# Altium schematic symbol library ARCOM_Chips.SchLib: 90 symbols (part 1 of 2)
Pins are listed as number, name and electrical type; pins without a type are passive.

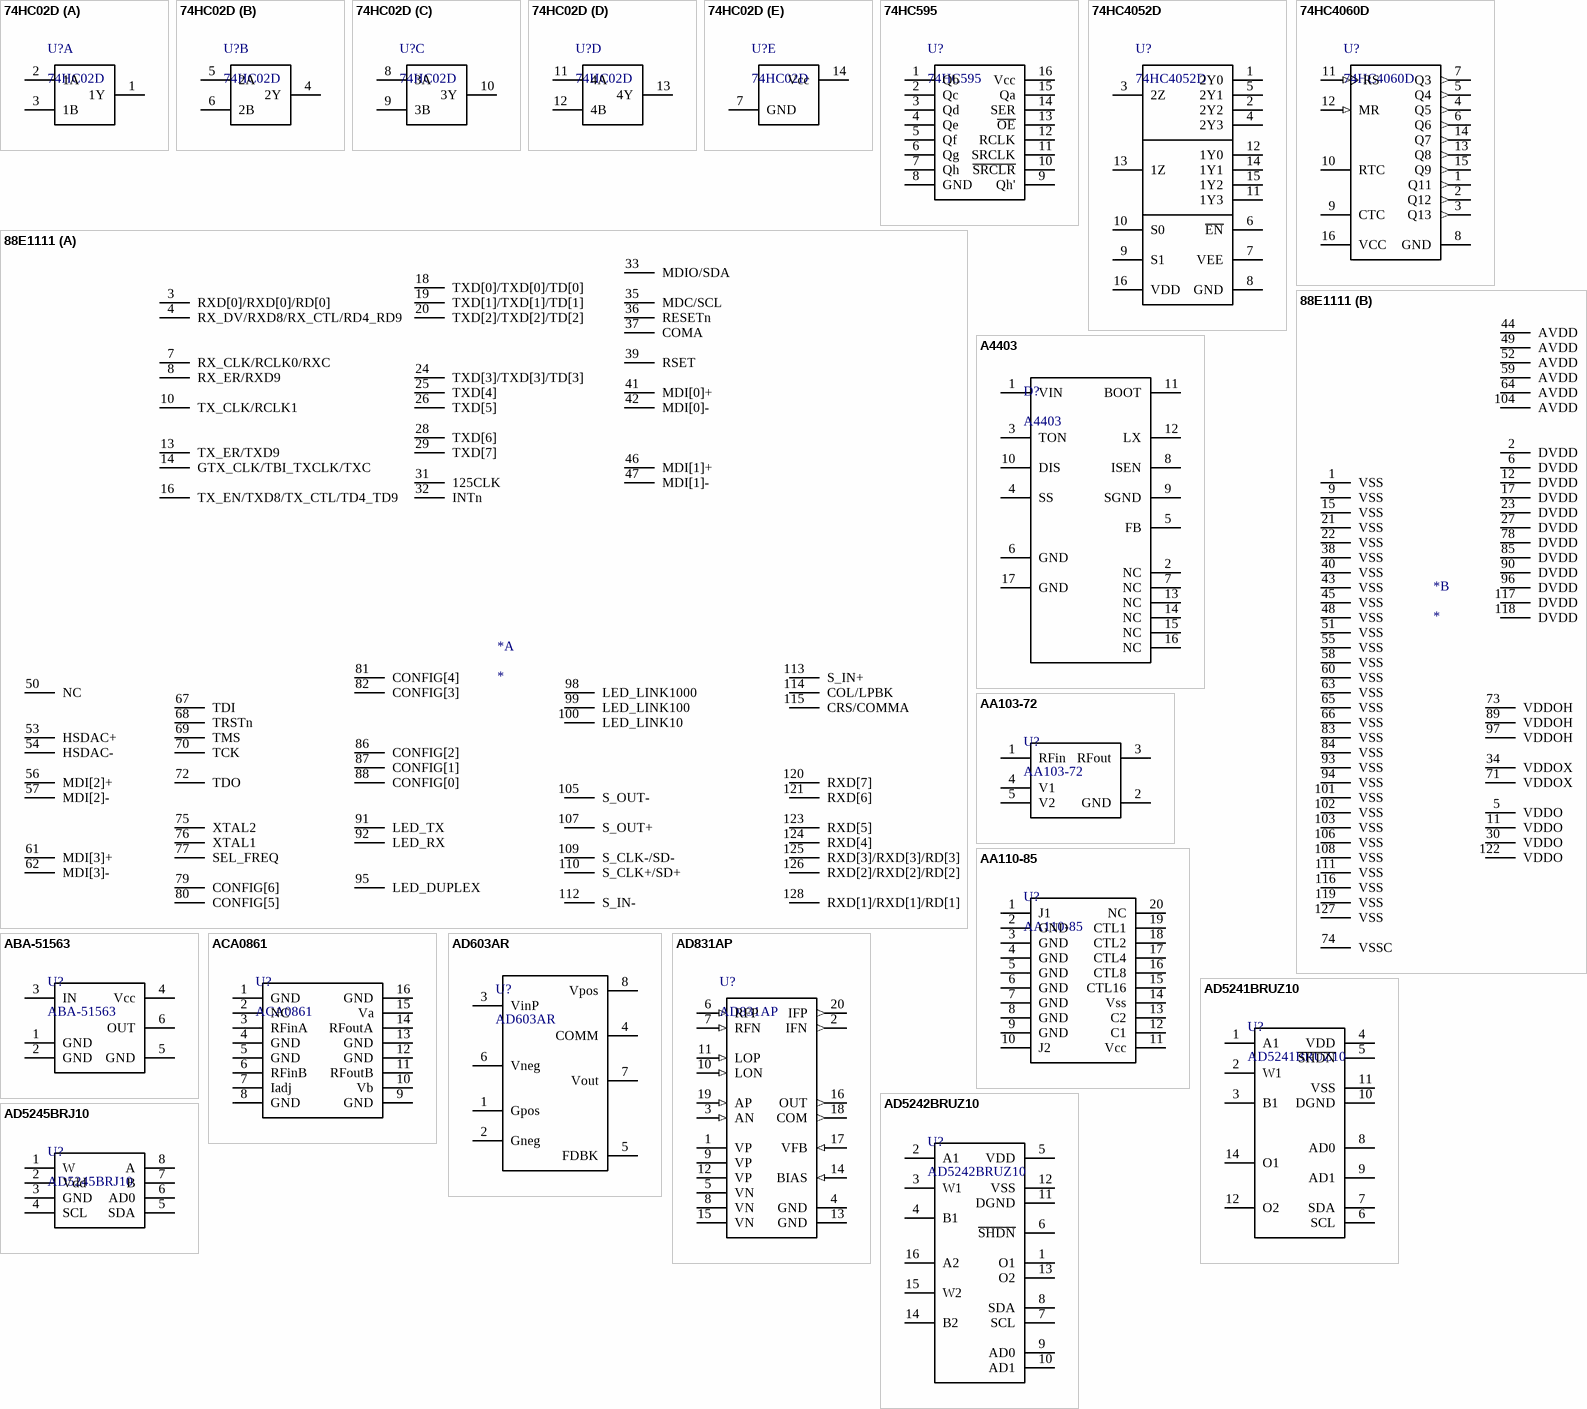
[diagram p0: symbols 74HC02D to AD5245BRJ10]

## 74HC02D
designator U?
Quad 2-input NOR gate; Manufacturer: NXP; ComponentLink1Description: Manufacturer; ComponentLink1URL: www.nxp.com; ComponentLink2Description: Datasheet; ComponentLink2URL: http://www.nxp.com/documents/data_sheet/74HC_HCT02.pdf; Manufacturer P/N: *; Family: Chip; Part: *
footprint PDSO-G14
part A pins: 1 1Y (power) "clock input /oscillator pin", 2 1A (power) "clock input /oscillator pin", 3 1B (power) "clock input /oscillator pin"
part B pins: 4 2Y (power) "clock input /oscillator pin", 5 2A (power) "clock input /oscillator pin", 6 2B (power) "clock input /oscillator pin"
part C pins: 8 3A (power) "clock input /oscillator pin", 9 3B (power) "clock input /oscillator pin", 10 3Y (power) "clock input /oscillator pin"
part D pins: 11 4A (power) "clock input /oscillator pin", 12 4B (power) "clock input /oscillator pin", 13 4Y (power) "clock input /oscillator pin"
part E pins: 7 GND (power) "clock input /oscillator pin", 14 Vcc (power) "clock input /oscillator pin"

## 74HC595
designator U?
8-Bit Shift Registers With 3-State Output Registers; Manufacturer: Texas Instruments; Manufacturer P/N: SN74HC595D; ComponentLink1Description: Manufacturer; ComponentLink1URL: *; ComponentLink2Description: Datasheet; ComponentLink2URL: *; Family: Chip; Part: SN74HC595D
footprint SOIC_16_N (SOIC, 16-Leads, Body 9.9x3.9mm, Pitch 1.27mm, IPC Medium Density)
pins: 1 Qb, 2 Qc, 3 Qd, 4 Qe, 5 Qf, 6 Qg, 7 Qh, 8 GND, 9 Qh', 10 ~{SRCLR}, 11 SRCLK, 12 RCLK, 13 ~{OE}, 14 SER, 15 Qa, 16 Vcc

## 74HC4052D
designator U?
Dual 4-channel analog multiplexer/demultiplexer; Manufacturer: NXP; ComponentLink1Description: Manufacturer; ComponentLink1URL: http://www.nxp.com/; ComponentLink2Description: Datasheet; ComponentLink2URL: https://www.mouser.com/datasheet/2/408/74HC4052D_datasheet_en_20201203-959202.pdf; Manufacturer P/N: 74HC4052D; Part: 74HC4052D; Family: Chip
footprint SOT109-1_V (SOP, 16-Leads, Body 9.9x3.9mm, Pitch 1.27mm)
pins: 1 2Y0 "independent input or output", 2 2Y2 "independent input or output", 3 2Z "common input or output", 4 2Y3 "independent input or output", 5 2Y1 "independent input or output", 6 ~{EN} "enable input (active LOW)", 7 VEE (power) "negative supply voltage", 8 GND (power) "ground (0V)", 9 S1 "select logic input", 10 S0 "select logic input", 11 1Y3 "independent input or output", 12 1Y0 "independent input or output", 13 1Z "common input or output", 14 1Y1 "independent input or output", 15 1Y2 "independent input or output", 16 VDD (power) "positive supply voltage"

## 74HC4060D
designator U?
14-stage binary ripple counter with oscillator; Manufacturer: NXP; ComponentLink1Description: Manufacturer; ComponentLink1URL: http://www.nxp.com/; ComponentLink2Description: Datasheet; ComponentLink2URL: http://www.nxp.com/documents/data_sheet/74HC_HCT4060.pdf; Manufacturer P/N: 74HC4060D; Part: 74HC4060D; Family: Chip
footprint SOT109-1_V (SOP, 16-Leads, Body 9.9x3.9mm, Pitch 1.27mm)
pins: 1 Q11 (out) "counter output", 2 Q12 (out) "counter output", 3 Q13 (out) "counter output", 4 Q5 (out) "counter output", 5 Q4 (out) "counter output", 6 Q6 (out) "counter output", 7 Q3 (out) "counter output", 8 GND (power) "ground (0 V)", 9 CTC "external capacitor connection", 10 RTC "external resistor connection", 11 RS (in) "clock input /oscillator pin", 12 MR (in) "master reset input (active HIGH)", 13 Q8 (out) "counter output", 14 Q7 (out) "counter output", 15 Q9 (out) "counter output", 16 VCC (power) "supply voltage"

## 88E1111
designator *
part A pins: 3 RXD[0]/RXD[0]/RD[0], 4 RX_DV/RXD8/RX_CTL/RD4_RD9, 7 RX_CLK/RCLK0/RXC, 8 RX_ER/RXD9, 10 TX_CLK/RCLK1, 13 TX_ER/TXD9, 14 GTX_CLK/TBI_TXCLK/TXC, 16 TX_EN/TXD8/TX_CTL/TD4_TD9, 18 TXD[0]/TXD[0]/TD[0], 19 TXD[1]/TXD[1]/TD[1], 20 TXD[2]/TXD[2]/TD[2], 24 TXD[3]/TXD[3]/TD[3], 25 TXD[4], 26 TXD[5], 28 TXD[6], 29 TXD[7], 31 125CLK, 32 INTn, 33 MDIO/SDA, 35 MDC/SCL, 36 RESETn, 37 COMA, 39 RSET, 41 MDI[0]+, 42 MDI[0]-, 46 MDI[1]+, 47 MDI[1]-, 50 NC, 53 HSDAC+, 54 HSDAC-, 56 MDI[2]+, 57 MDI[2]-, 61 MDI[3]+, 62 MDI[3]-, 67 TDI, 68 TRSTn, 69 TMS, 70 TCK, 72 TDO, 75 XTAL2, 76 XTAL1, 77 SEL_FREQ, 79 CONFIG[6], 80 CONFIG[5], 81 CONFIG[4], 82 CONFIG[3], 86 CONFIG[2], 87 CONFIG[1], 88 CONFIG[0], 91 LED_TX, 92 LED_RX, 95 LED_DUPLEX, 98 LED_LINK1000, 99 LED_LINK100, 100 LED_LINK10, 105 S_OUT-, 107 S_OUT+, 109 S_CLK-/SD-, 110 S_CLK+/SD+, 112 S_IN-, 113 S_IN+, 114 COL/LPBK, 115 CRS/COMMA, 120 RXD[7], 121 RXD[6], 123 RXD[5], 124 RXD[4], 125 RXD[3]/RXD[3]/RD[3], 126 RXD[2]/RXD[2]/RD[2], 128 RXD[1]/RXD[1]/RD[1]
part B pins: 1 VSS, 2 DVDD, 5 VDDO, 6 DVDD, 9 VSS, 11 VDDO, 12 DVDD, 15 VSS, 17 DVDD, 21 VSS, 22 VSS, 23 DVDD, 27 DVDD, 30 VDDO, 34 VDDOX, 38 VSS, 40 VSS, 43 VSS, 44 AVDD, 45 VSS, 48 VSS, 49 AVDD, 51 VSS, 52 AVDD, 55 VSS, 58 VSS, 59 AVDD, 60 VSS, 63 VSS, 64 AVDD, 65 VSS, 66 VSS, 71 VDDOX, 73 VDDOH, 74 VSSC, 78 DVDD, 83 VSS, 84 VSS, 85 DVDD, 89 VDDOH, 90 DVDD, 93 VSS, 94 VSS, 96 DVDD, 97 VDDOH, 101 VSS, 102 VSS, 103 VSS, 104 AVDD, 106 VSS, 108 VSS, 111 VSS, 116 VSS, 117 DVDD, 118 DVDD, 119 VSS, 122 VDDO, 127 VSS

## A4403
designator D?
Valley Current Mode Control Buck Converter; Manufacturer: Allegro MicroSystems., LLC; ComponentLink1Description: Manufacturer; ComponentLink2Description: Datasheet; ComponentLink2URL: https://www.google.ru/url?sa=t&rct=j&q=&esrc=s&source=web&cd=1&cad=rja&uact=8&ved=0ahUKEwifxJz-1uvOAhXhNJoKHSR9B5QQFggbMAA&url=http%3A%2F%2Fwww.allegromicro.com%2F~%2Fmedia%2Ffiles%2Fdatasheets%2Fa4403-datasheet.ashx&usg=AFQjCNEg80RW3msAan66noTVfqcKcYbUNQ&sig2=7SIyzdgdjy15XZ7xWYCyTQ&bvm=bv.131286987,d.bGs; Manufacturer P/N: A4403; Family: Chip; Part: A4403
footprint QFN16(4x4mm)0.65pitch
pins: 1 VIN, 2 NC, 3 TON, 4 SS, 5 FB, 6 GND, 7 NC, 8 ISEN, 9 SGND, 10 DIS, 11 BOOT, 12 LX, 13 NC, 14 NC, 15 NC, 16 NC, 17 GND

## AA103-72
designator U?
1-Bit 10dB Digital Attenuator; Manufacturer: Skyworks solutions; ComponentLink1Description: Manufacturer; ComponentLink1URL: http://www.skyworksinc.com; ComponentLink2Description: Datasheet; ComponentLink2URL: http://www.skyworksinc.com/uploads/documents/200199C.pdf; Manufacturer P/N: AA103-72; Part: AA103-72; Family: Chip
footprint SOT23_MF05A_L (SOT23, 5-Leads, Body 2.9x1.6mm, Pitch 0.95mm, Lead Span 2.8mm, IPC High Density)
footprint SOT23_MF05A_M (SOT23, 5-Leads, Body 2.9x1.6mm, Pitch 0.95mm, Lead Span 2.8mm, IPC Low Density)
footprint SOT23_MF05A_N (SOT23, 5-Leads, Body 2.9x1.6mm, Pitch 0.95mm, Lead Span 2.8mm, IPC Medium Density)
pins: 1 RFin, 2 GND, 3 RFout, 4 V1, 5 V2

## AA110-85
designator U?
5-Bit Digital Attenuator with driver; Manufacturer: Skyworks solutions; ComponentLink1Description: Manufacturer; ComponentLink1URL: http://www.skyworksinc.com/; ComponentLink2Description: Datasheet; ComponentLink2URL: http://pdf1.alldatasheet.com/datasheet-pdf/view/201353/SKYWORKS/AA110-85.html; Manufacturer P/N: AA110-85; Part: AA110-85; Family: Chip
footprint SSOP-20_L (SOP, 20-Leads, Body 6.5x4.4mm, Pitch 0.65mm, IPC High Density)
footprint SSOP-20_M (SOP, 20-Leads, Body 6.5x4.4mm, Pitch 0.65mm, IPC Low Density)
footprint SSOP-20_N (SOP, 20-Leads, Body 6.5x4.4mm, Pitch 0.65mm, IPC Medium Density)
pins: 1 J1, 2 GND, 3 GND, 4 GND, 5 GND, 6 GND, 7 GND, 8 GND, 9 GND, 10 J2, 11 Vcc, 12 C1, 13 C2, 14 Vss, 15 CTL16, 16 CTL8, 17 CTL4, 18 CTL2, 19 CTL1, 20 NC

## ABA-51563
designator U?
3.5 GHz Broadband Silicon RFIC Amplifier; Manufacturer: Avago Technologies; Manufacturer P/N: ABA-51563-xxxx; ComponentLink1Description: Manufacturer; ComponentLink1URL: http://www.avagotech.com/; ComponentLink2Description: Datasheet; ComponentLink2URL: http://www.avagotech.com/products/wireless/amplifiers/gain-block-and-drivers/aba-51563#; Part: ABA-51563; Family: Chip
footprint SOT363 (SOT23, 6-Leads, Body 2x1.25 mm, Pitch 0.65 mm)
pins: 1 GND, 2 GND, 3 IN, 4 Vcc, 5 GND, 6 OUT

## ACA0861
designator U?
750/860 MHz Line Amplifier; Manufacturer: Anadigics; Manufacturer P/N: ACA0861xS7CTR; Part: ACA0861(A,B,C,D); ComponentLink1Description: Manufacturer; ComponentLink1URL: http://www.anadigics.com/; ComponentLink2Description: Datasheet; ComponentLink2URL: http://www.anadigics.com/sites/default/files/datasheets/ACA0861ABCD_Rev_2.3.pdf; Family: Chip
footprint TI-DW16_L (SOIC, 16-Leads, Body 10.3x7.5mm, Pitch 1.27mm, IPC High Density)
footprint TI-DW16_M (SOIC, 16-Leads, Body 10.3x7.5mm, Pitch 1.27mm, IPC Low Density)
footprint TI-DW16_N (SOIC, 16-Leads, Body 10.3x7.5mm, Pitch 1.27mm, IPC Medium Density)
pins: 1 GND, 2 NC, 3 RFinA, 4 GND, 5 GND, 6 RFinB, 7 Iadj, 8 GND, 9 GND, 10 Vb, 11 RFoutB, 12 GND, 13 GND, 14 RFoutA, 15 Va, 16 GND

## AD603AR
designator U?
Low Noise, 90MHz Variable Gain Amplifier; Manufacturer: Analog Devices; ComponentLink1Description: Manufacturer; ComponentLink1URL: http://www.analog.com/; ComponentLink2Description: Datasheet; ComponentLink2URL: http://www.analog.com/media/en/technical-documentation/data-sheets/AD603.pdf; Manufacturer P/N: AD603AR; Part: AD603AR; Family: Chip
footprint SOIC_8_1.27_L (SOIC, 8-Leads, Body 4.89x3.9mm, Pitch 1.27mm, IPC High Density)
footprint SOIC_8_1.27_M (SOIC, 8-Leads, Body 4.89x3.9mm, Pitch 1.27mm, IPC Low Density)
footprint SOIC_8_1.27_N (SOIC, 8-Leads, Body 4.89x3.9mm, Pitch 1.27mm, IPC Medium Density)
pins: 1 Gpos, 2 Gneg, 3 VinP, 4 COMM, 5 FDBK, 6 Vneg, 7 Vout, 8 Vpos

## AD831AP
designator U?
Low Distorsion Mixer; Manufacturer: Analog Devices; ComponentLink1Description: Manufacturer; ComponentLink1URL: http://www.analog.com/; ComponentLink2Description: Datasheet; ComponentLink2URL: http://www.analog.com/media/en/technical-documentation/data-sheets/AD831.pdf; Manufacturer P/N: AD831AP; Part: AD831AP; Family: Chip
footprint ADI-P-20A_L (Leaded Chip Carrier, 20-Leads, Body 9x9mm, Pitch 1.27mm, IPC High Density)
footprint ADI-P-20A_M (Leaded Chip Carrier, 20-Leads, Body 9x9mm, Pitch 1.27mm, IPC Low Density)
footprint ADI-P-20A_N (Leaded Chip Carrier, 20-Leads, Body 9x9mm, Pitch 1.27mm, IPC Medium Density)
pins: 1 VP (power) "Positive Supply Input", 2 IFN (out) "Mixer Current Output", 3 AN (in) "Amplifier Negative Input", 4 GND (power) "Ground", 5 VN (power) "Negative Supply Input", 6 RFP (in) "RF Input", 7 RFN (in) "RF Input", 8 VN (power) "Negative Supply Input", 9 VP (power) "Positive Supply Input", 10 LON (in) "Local Oscillator Input", 11 LOP (in) "Local Oscillator Input", 12 VP (power) "Positive Supply Input", 13 GND (power) "Ground", 14 BIAS (in) "Bias Input", 15 VN (power) "Negative Supply Input", 16 OUT (out) "Amplifier Output", 17 VFB (in) "Amplifier Feedback Input", 18 COM (out) "Amplifier Output Common", 19 AP (in) "Amplifier Positive Input", 20 IFP (out) "Mixer Current Output"

## AD5241BRUZ10
designator U?
I2C-Compatible, 256-Position Digital Potentiometer; Manufacturer: Analog Devices; ComponentLink1Description: Manufacturer; ComponentLink1URL: http://www.analog.com/; ComponentLink2Description: Datasheet; ComponentLink2URL: http://www.analog.com/media/en/technical-documentation/data-sheets/AD5241_5242.pdf; Manufacturer P/N: AD5241BRUZ10; Part: AD5241BRUZ10; Family: Chip
footprint TSSOP-ST14_L (TSOP, 14-Leads, Body 5x4.4mm, Pitch 0.65mm, IPC High Density)
footprint TSSOP-ST14_M (TSOP, 14-Leads, Body 5x4.4mm, Pitch 0.65mm, IPC Low Density)
footprint TSSOP-ST14_N (TSOP, 14-Leads, Body 5x4.4mm, Pitch 0.65mm, IPC Medium Density)
pins: 1 A1, 2 W1, 3 B1, 4 VDD, 5 ~{SHDN}, 6 SCL, 7 SDA, 8 AD0, 9 AD1, 10 DGND, 11 VSS, 12 O2, 14 O1

## AD5242BRUZ10
designator U?
I2C-Compatible, 256-Position Digital Potentiometer; Manufacturer: Analog Devices; ComponentLink1Description: Manufacturer; ComponentLink1URL: http://www.analog.com/; ComponentLink2Description: Datasheet; ComponentLink2URL: http://www.analog.com/media/en/technical-documentation/data-sheets/AD5241_5242.pdf; Manufacturer P/N: AD5242BRUZ10; Part: AD5242BRUZ10; Family: Chip
footprint TSSOP-16_L (SOP, 16-Leads, Body 5.1x4.5mm, Pitch 0.65mm, IPC High Density)
footprint TSSOP-16_M (SOP, 16-Leads, Body 5.1x4.5mm, Pitch 0.65mm, IPC Low Density)
footprint TSSOP-16_N (SOP, 16-Leads, Body 5.1x4.5mm, Pitch 0.65mm, IPC Medium Density)
pins: 1 O1, 2 A1, 3 W1, 4 B1, 5 VDD, 6 ~{SHDN}, 7 SCL, 8 SDA, 9 AD0, 10 AD1, 11 DGND, 12 VSS, 13 O2, 14 B2, 15 W2, 16 A2

## AD5245BRJ10
designator U?
256-Position I2C-compatible digital potentiometer; Manufacturer: Analog Devices; ComponentLink1Description: Manufacturer; ComponentLink1URL: http://www.analog.com/; ComponentLink2Description: Datasheet; ComponentLink2URL: http://www.analog.com/media/en/technical-documentation/data-sheets/AD5245.pdf; Manufacturer P/N: AD5245BRJ10; Part: AD5245BRJ10; Family: Chip
footprint SOT23_8pin (SOT23, 8-Leads, Body 2.90x1.63mm, Pitch 0.65mm, IPC High Density, Recommended)
pins: 1 W, 2 Vdd, 3 GND, 4 SCL, 5 SDA, 6 AD0, 7 B, 8 A

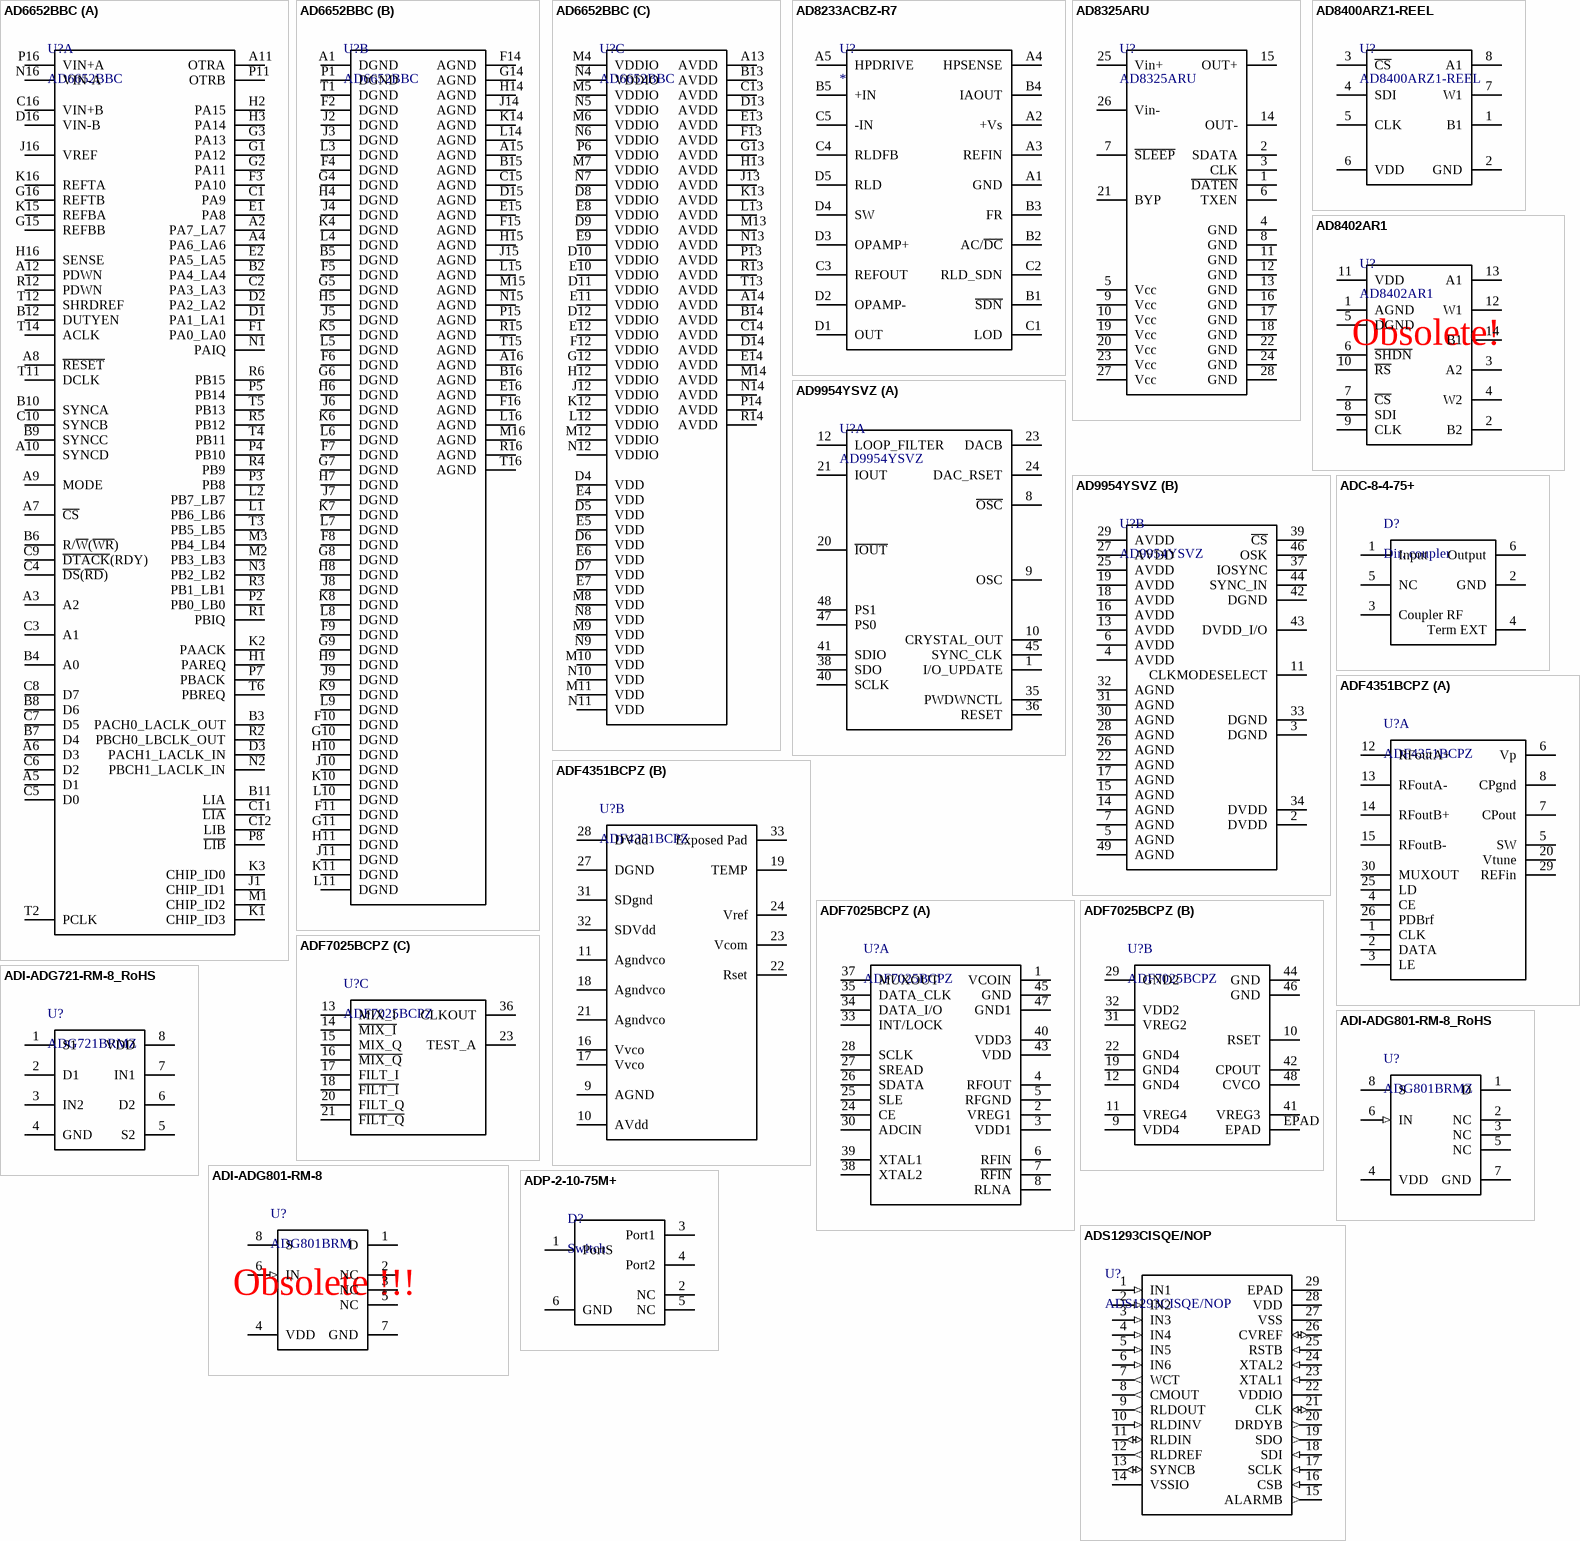
[diagram p1: symbols AD6652BBC to ADS1293CISQE/NOP]

## AD6652BBC
designator U?
12-bit, 65MSPS IF to Baseband Diversity Receiver; Manufacturer: Analog Devices; ComponentLink1Description: Manufacturer; ComponentLink1URL: http://www.analog.com/; ComponentLink2Description: Datasheet; ComponentLink2URL: http://www.marutsu.co.jp/contents/shop/marutsu/datasheet/AD6652.pdf; Manufacturer P/N: AD6652BBC; Part: AD6652BBC; Family: Chip
footprint BC-256-2 (BGA, 256-Leads, Body 17x17mm, Pitch 1mm)
part A pins: A2 PA7_LA7, A3 A2, A4 PA6_LA6, A5 D1, A6 D3, A7 ~{CS}, A8 ~{RESET}, A9 MODE, A10 SYNCD, A11 OTRA, A12 PDWN, B2 PA4_LA4, B3 PACH0_LACLK_OUT, B4 A0, B6 R/~{W}(~{WR}), B7 D4, B8 D6, B9 SYNCC, B10 SYNCA, B11 LIA, B12 DUTYEN, C1 PA9, C2 PA3_LA3, C3 A1, C4 ~{DS}(~{RD}), C5 D0, C6 D2, C7 D5, C8 D7, C9 ~{DTACK}(RDY), C10 SYNCB, C11 ~{LIA}, C12 LIB, C16 VIN+B, D1 PA1_LA1, D2 PA2_LA2, D3 PACH1_LACLK_IN, D16 VIN-B, E1 PA8, E2 PA5_LA5, F1 PA0_LA0, F3 PA10, G1 PA12, G2 PA11, G3 PA13, G15 REFBB, G16 REFTB, H1 PAREQ, H2 PA15, H3 PA14, H16 SENSE, J1 CHIP_ID1, J16 VREF, K1 CHIP_ID3, K2 PAACK, K3 CHIP_ID0, K15 REFBA, K16 REFTA, L1 PB6_LB6, L2 PB7_LB7, M1 CHIP_ID2, M2 PB3_LB3, M3 PB4_LB4, N1 PAIQ, N2 PBCH1_LACLK_IN, N3 PB2_LB2, N16 VIN-A, P2 PB0_LB0, P3 PB8, P4 PB10, P5 PB14, P7 PBACK, P8 ~{LIB}, P11 OTRB, P16 VIN+A, R1 PBIQ, R2 PBCH0_LBCLK_OUT, R3 PB1_LB1, R4 PB9, R5 PB12, R6 PB15, R12 PDWN, T2 PCLK, T3 PB5_LB5, T4 PB11, T5 PB13, T6 PBREQ, T11 DCLK, T12 SHRDREF, T14 ACLK
part B pins: A1 DGND, A15 AGND, A16 AGND, B5 DGND, B15 AGND, B16 AGND, C15 AGND, D15 AGND, E15 AGND, E16 AGND, F2 DGND, F4 DGND, F5 DGND, F6 DGND, F7 DGND, F8 DGND, F9 DGND, F10 DGND, F11 DGND, F14 AGND, F15 AGND, F16 AGND, G4 DGND, G5 DGND, G6 DGND, G7 DGND, G8 DGND, G9 DGND, G10 DGND, G11 DGND, G14 AGND, H4 DGND, H5 DGND, H6 DGND, H7 DGND, H8 DGND, H9 DGND, H10 DGND, H11 DGND, H14 AGND, H15 AGND, J2 DGND, J3 DGND, J4 DGND, J5 DGND, J6 DGND, J7 DGND, J8 DGND, J9 DGND, J10 DGND, J11 DGND, J14 AGND, J15 AGND, K4 DGND, K5 DGND, K6 DGND, K7 DGND, K8 DGND, K9 DGND, K10 DGND, K11 DGND, K14 AGND, L3 DGND, L4 DGND, L5 DGND, L6 DGND, L7 DGND, L8 DGND, L9 DGND, L10 DGND, L11 DGND, L14 AGND, L15 AGND, L16 AGND, M15 AGND, M16 AGND, N15 AGND, P1 DGND, P15 AGND, R15 AGND, R16 AGND, T1 DGND, T15 AGND, T16 AGND
part C pins: A13 AVDD, A14 AVDD, B13 AVDD, B14 AVDD, C13 AVDD, C14 AVDD, D4 VDD, D5 VDD, D6 VDD, D7 VDD, D8 VDDIO, D9 VDDIO, D10 VDDIO, D11 VDDIO, D12 VDDIO, D13 AVDD, D14 AVDD, E4 VDD, E5 VDD, E6 VDD, E7 VDD, E8 VDDIO, E9 VDDIO, E10 VDDIO, E11 VDDIO, E12 VDDIO, E13 AVDD, E14 AVDD, F12 VDDIO, F13 AVDD, G12 VDDIO, G13 AVDD, H12 VDDIO, H13 AVDD, J12 VDDIO, J13 AVDD, K12 VDDIO, K13 AVDD, L12 VDDIO, L13 AVDD, M4 VDDIO, M5 VDDIO, M6 VDDIO, M7 VDDIO, M8 VDD, M9 VDD, M10 VDD, M11 VDD, M12 VDDIO, M13 AVDD, M14 AVDD, N4 VDDIO, N5 VDDIO, N6 VDDIO, N7 VDDIO, N8 VDD, N9 VDD, N10 VDD, N11 VDD, N12 VDDIO, N13 AVDD, N14 AVDD, P6 VDDIO, P13 AVDD, P14 AVDD, R13 AVDD, R14 AVDD, T13 AVDD

## AD8233ACBZ-R7
designator U?
Heart Rate Monitor for Wearable Products
footprint WLCSP-20
pins: A1 GND, A2 +Vs, A3 REFIN, A4 HPSENSE, A5 HPDRIVE, B1 ~{SDN}, B2 AC/~{DC}, B3 FR, B4 IAOUT, B5 +IN, C1 LOD, C2 RLD_SDN, C3 REFOUT, C4 RLDFB, C5 -IN, D1 OUT, D2 OPAMP-, D3 OPAMP+, D4 SW, D5 RLD

## AD8325ARU
designator U?
5V CATV Line Driver Fine Step Output Power Control; Manufacturer: Analog Devices; Manufacturer P/N: AD8325ARU; Part: AD8325ARU; Family: Chip; ComponentLink1Description: Manufacturer; ComponentLink1URL: www.analog.com; ComponentLink2Description: Datasheet; ComponentLink2URL: https://www.analog.com/media/en/technical-documentation/data-sheets/AD8325.pdf
pins: 1 ~{DATEN}, 2 SDATA, 3 CLK, 4 GND, 5 Vcc, 6 TXEN, 7 ~{SLEEP}, 8 GND, 9 Vcc, 10 Vcc, 11 GND, 12 GND, 13 GND, 14 OUT-, 15 OUT+, 16 GND, 17 GND, 18 GND, 19 Vcc, 20 Vcc, 21 BYP, 22 GND, 23 Vcc, 24 GND, 25 Vin+, 26 Vin-, 27 Vcc, 28 GND

## AD8400ARZ1-REEL
designator U?
1-channel digital potentiometer; Manufacturer: Analog Devices; ComponentLink1Description: *; ComponentLink2Description: *; ComponentLink1URL: *; ComponentLink2URL: *; Family: Chip; Manufacturer P/N: AD8400ARZ1-REEL; Part: AD8400ARZ1-REEL
footprint SOIC_8_1.27_N (SOIC, 8-Leads, Body 4.89x3.9mm, Pitch 1.27mm, IPC Medium Density)
pins: 1 B1, 2 GND, 3 ~{CS}, 4 SDI, 5 CLK, 6 VDD, 7 W1, 8 A1

## AD8402AR1
designator U?
2-channel digital potentiometer; Manufacturer: Analog Devices; ComponentLink1Description: Manufacturer; ComponentLink1URL: http://www.analog.com/; ComponentLink2Description: Datasheet; ComponentLink2URL: http://www.analog.com/media/en/technical-documentation/data-sheets/AD8400_8402_8403.pdf; Manufacturer P/N: AD8402AR1; part: AD8402AR1; Family: Chip
pins: 1 AGND, 2 B2, 3 A2, 4 W2, 5 DGND, 6 ~{SHDN}, 7 ~{CS}, 8 SDI, 9 CLK, 10 ~{RS}, 11 VDD, 12 W1, 13 A1, 14 B1
text: Obsolete!

## AD9954YSVZ
designator U?
400 MSPS, 14-Bit, 1.8V CMOS, Direct Digital Synthesizer.; Manufacturer: Analog Devices; Manufacturer P/N: AD9954YSVZ; Family: Chip; part: AD9954YSVZ; ComponentLink1Description: Manufacturer; ComponentLink1URL: www.analog.com; ComponentLink2Description: Datasheet; ComponentLink2URL: https://eu.mouser.com/datasheet/2/609/AD9954-3120208.pdf
footprint SV_48_4-L
part A pins: 1 I/O_UPDATE, 8 ~{OSC}, 9 OSC, 10 CRYSTAL_OUT, 12 LOOP_FILTER, 20 ~{IOUT}, 21 IOUT, 23 DACB, 24 DAC_RSET, 35 PWDWNCTL, 36 RESET, 38 SDO, 40 SCLK, 41 SDIO, 45 SYNC_CLK, 47 PS0, 48 PS1
part B pins: 2 DVDD, 3 DGND, 4 AVDD, 5 AGND, 6 AVDD, 7 AGND, 11 CLKMODESELECT, 13 AVDD, 14 AGND, 15 AGND, 16 AVDD, 17 AGND, 18 AVDD, 19 AVDD, 22 AGND, 25 AVDD, 26 AGND, 27 AVDD, 28 AGND, 29 AVDD, 30 AGND, 31 AGND, 32 AGND, 33 DGND, 34 DVDD, 37 IOSYNC, 39 ~{CS}, 42 DGND, 43 DVDD_I/O, 44 SYNC_IN, 46 OSK, 49 AGND

## ADC-8-4-75+
designator D?, comment Dir. coupler
Directional coupler 8dB; Manufacturer: Mini-circuits; Manufacturer P/N: ADC-8-4-75+; ComponentLink1Description: Manufacturer; ComponentLink1URL: www.minicircuits.com; ComponentLink2Description: Datasheet; ComponentLink2URL: https://ww2.minicircuits.com/pdfs/ADC-8-4-75+.pdf; Family: *; Part: ADC-8-4-75+
footprint CD542(minicircuits)
pins: 2 GND "Source Terminal. This pin can be an input or output.", 3 Coupler RF "Source Terminal. This pin can be an input or output.", 4 Term EXT "Source Terminal. This pin can be an input or output.", 5 NC "Source Terminal. This pin can be an input or output.", 6 Output "Source Terminal. This pin can be an input or output.",  1 Input "Source Terminal. This pin can be an input or output."

## ADF4351BCPZ
designator U?
Wideband Synthesizer with Integrated VCO; Manufacturer: Analog Devices; Manufacturer p/n: AD4351BCPZ; ComponentLink1Description: Datasheet; ComponentLink1URL: *; ComponentLink2Description: Manufacturer; ComponentLink2URL: *; Family: Chips; Part: AD4351BCPZ
footprint CP-32-2_M (QFN, 32-Leads, Body 5x5mm, Pitch 0.5mm, Thermal Pad 3.1x3.1mm, IPC Low Density)
footprint CP-32-2_L (QFN, 32-Leads, Body 5x5mm, Pitch 0.5mm, Thermal Pad 3.1x3.1mm, IPC High Density)
footprint CP-32-2_N (QFN, 32-Leads, Body 5x5mm, Pitch 0.5mm, Thermal Pad 3.1x3.1mm, IPC Medium Density)
part A pins: 1 CLK, 2 DATA, 3 LE, 4 CE, 5 SW, 6 Vp, 7 CPout, 8 CPgnd, 12 RFoutA+, 13 RFoutA-, 14 RFoutB+, 15 RFoutB-, 20 Vtune, 25 LD, 26 PDBrf, 29 REFin, 30 MUXOUT
part B pins: 9 AGND, 10 AVdd, 11 Agndvco, 16 Vvco, 17 Vvco, 18 Agndvco, 19 TEMP, 21 Agndvco, 22 Rset, 23 Vcom, 24 Vref, 27 DGND, 28 DVdd, 31 SDgnd, 32 SDVdd, 33 Exposed Pad

## ADF7025BCPZ
designator U?
High Performance ISM Band Transceiver IC; Manufacturer: Analog Devices; ComponentLink1Description: *; ComponentLink1URL: *; ComponentLink2Description: *; ComponentLink2URL: *; Family: *; Manufacturer P/N: *; Part: *
footprint my_CP-48-13_L (QFN, 48-Leads, Body 7x7mm, Pitch 0.5mm, Thermal Pad 5.6x5.6mm, IPC High Density)
part A pins: 1 VCOIN, 2 VREG1, 3 VDD1, 4 RFOUT, 5 RFGND, 6 RFIN, 7 ~{RFIN}, 8 RLNA, 24 CE, 25 SLE, 26 SDATA, 27 SREAD, 28 SCLK, 30 ADCIN, 33 INT/LOCK, 34 DATA_I/O, 35 DATA_CLK, 37 MUXOUT, 38 XTAL2, 39 XTAL1, 40 VDD3, 43 VDD, 45 GND, 47 GND1
part B pins: 9 VDD4, 10 RSET, 11 VREG4, 12 GND4, 19 GND4, 22 GND4, 29 GND2, 31 VREG2, 32 VDD2, 41 VREG3, 42 CPOUT, 44 GND, 46 GND, 48 CVCO, EPAD
part C pins: 13 MIX_I, 14 ~{MIX_I}, 15 MIX_Q, 16 ~{MIX_Q}, 17 FILT_I, 18 ~{FILT_I}, 20 FILT_Q, 21 ~{FILT_Q}, 23 TEST_A, 36 CLKOUT

## ADI-ADG721-RM-8_RoHS
designator U?, comment ADG721BRMZ
4 Ohm CMOS, Low Voltage, Dual SPST Switches, -40 to 125 degC, 8-pin SOP (RM-8); Manufacturer: Analog Devices, Inc.; ComponentLink1Description: Manufacturer; ComponentLink1URL: http://www.analog.com/ru/; ComponentLink2Description: Datasheet; Manufacturer P/N: ADG721BRMZ; Part: ADG721BRMZ; Family: Chip
footprint ADI-RM-8_L (SOP, 8-Leads, Body 3x3mm, Pitch 0.65mm, IPC High Density)
footprint ADI-RM-8_M (SOP, 8-Leads, Body 3x3mm, Pitch 0.65mm, IPC Low Density)
footprint ADI-RM-8_N (SOP, 8-Leads, Body 3x3mm, Pitch 0.65mm, IPC Medium Density)
pins: 1 S1 "Drain Terminal. This pin can be an input or output.", 2 D1 "Drain Terminal. This pin can be an input or output.", 3 IN2 "Drain Terminal. This pin can be an input or output.", 4 GND "Drain Terminal. This pin can be an input or output.", 5 S2 "Drain Terminal. This pin can be an input or output.", 6 D2 "Drain Terminal. This pin can be an input or output.", 7 IN1 "Drain Terminal. This pin can be an input or output.", 8 VDD "Drain Terminal. This pin can be an input or output."

## ADI-ADG801-RM-8
designator U?, comment ADG801BRM
<0.4 Ohm CMOS 1.8 to 5.5 V SPST Switch, -40 to 125 degC, 8-pin SOP (RM-8); Manufacturer: Analog Devices, Inc.; ComponentLink1Description: Manufacturer; ComponentLink1URL: http://www.analog.com/ru/; ComponentLink2Description: Datasheet; ComponentLink2URL: http://www.analog.com/media/en/technical-documentation/data-sheets/ADG801_802.pdf; Manufacturer P/N: ADG801BRM; Part: ADG801BRM; Family: Chip
footprint ADI-RM-8_L (SOP, 8-Leads, Body 3x3mm, Pitch 0.65mm, IPC High Density)
footprint ADI-RM-8_M (SOP, 8-Leads, Body 3x3mm, Pitch 0.65mm, IPC Low Density)
footprint ADI-RM-8_N (SOP, 8-Leads, Body 3x3mm, Pitch 0.65mm, IPC Medium Density)
pins: 1 D "Drain Terminal. This pin can be an input or output.", 2 NC "No Connect.", 3 NC "No Connect.", 4 VDD (power) "Most Positive Power Supply Potential.", 5 NC "No Connect.", 6 IN (in) "Logic Control Input.", 7 GND (power) "Ground (0 V) Reference.", 8 S "Source Terminal. This pin can be an input or output."
text: Obsolete !!!

## ADI-ADG801-RM-8_RoHS
designator U?, comment ADG801BRMZ
<0.4 Ohm CMOS 1.8 to 5.5 V SPST Switch, -40 to 125 degC, 8-pin SOP (RM-8); Manufacturer: Analog Devices, Inc.; ComponentLink1Description: Manufacturer; ComponentLink1URL: http://www.analog.com/ru/; ComponentLink2Description: Datasheet; ComponentLink2URL: http://www.analog.com/media/en/technical-documentation/data-sheets/ADG801_802.pdf; Manufacturer P/N: ADG801BRMZ; Part: ADG801BRMZ; Family: Chip
footprint ADI-RM-8_L (SOP, 8-Leads, Body 3x3mm, Pitch 0.65mm, IPC High Density)
footprint ADI-RM-8_M (SOP, 8-Leads, Body 3x3mm, Pitch 0.65mm, IPC Low Density)
footprint ADI-RM-8_N (SOP, 8-Leads, Body 3x3mm, Pitch 0.65mm, IPC Medium Density)
pins: 1 D "Drain Terminal. This pin can be an input or output.", 2 NC "No Connect.", 3 NC "No Connect.", 4 VDD (power) "Most Positive Power Supply Potential.", 5 NC "No Connect.", 6 IN (in) "Logic Control Input.", 7 GND (power) "Ground (0 V) Reference.", 8 S "Source Terminal. This pin can be an input or output."

## ADP-2-10-75M+
designator D?, comment Switch
Power Splitter/Combiner 2way-0deg; Manufacturer: Mini-Circuits; Manufacturer p/n: ADP-2-10-75M+; ComponentLink1Description: *; ComponentLink1URL: *; ComponentLink2Description: *; ComponentLink2URL: *; Family: *; Part: ADP-2-10-75M+
footprint ADP-2-10-75M+
pins: 1 PortS "Source Terminal. This pin can be an input or output.", 2 NC "No Connect.", 3 Port1 "Drain Terminal. This pin can be an input or output.", 4 Port2 "No Connect.", 5 NC "No Connect.", 6 GND (power) "Most Positive Power Supply Potential."

## ADS1293CISQE/NOP
designator U?
Low-Power, 3-ch, 24-bit Front-End for Biopotential Measurement; Manufacturer_Part_Number: ads1293cisqe/nopb; Vendor: TEXAS INSTRUMENTS; C: Copyright (C) 2015 Accelerated Designs. All rights reserved; Copyright: Copyright (C) 2015 Accelerated Designs. All rights reserved; RefDes: RefDes; Type: Type; Value: Value
footprint RSG28_3P6X3P6
pins: 1 IN1 (in), 2 IN2 (in), 3 IN3 (in), 4 IN4 (in), 5 IN5 (in), 6 IN6 (in), 7 WCT (out), 8 CMOUT (out), 9 RLDOUT (out), 10 RLDINV (in), 11 RLDIN (io), 12 RLDREF (out), 13 SYNCB (io), 14 VSSIO (power), 15 ALARMB (out), 16 CSB (in), 17 SCLK (in), 18 SDI (in), 19 SDO (out), 20 DRDYB (out), 21 CLK (io), 22 VDDIO (power), 23 XTAL1 (in), 24 XTAL2 (in), 25 RSTB (in), 26 CVREF (io), 27 VSS (power), 28 VDD (power), 29 EPAD

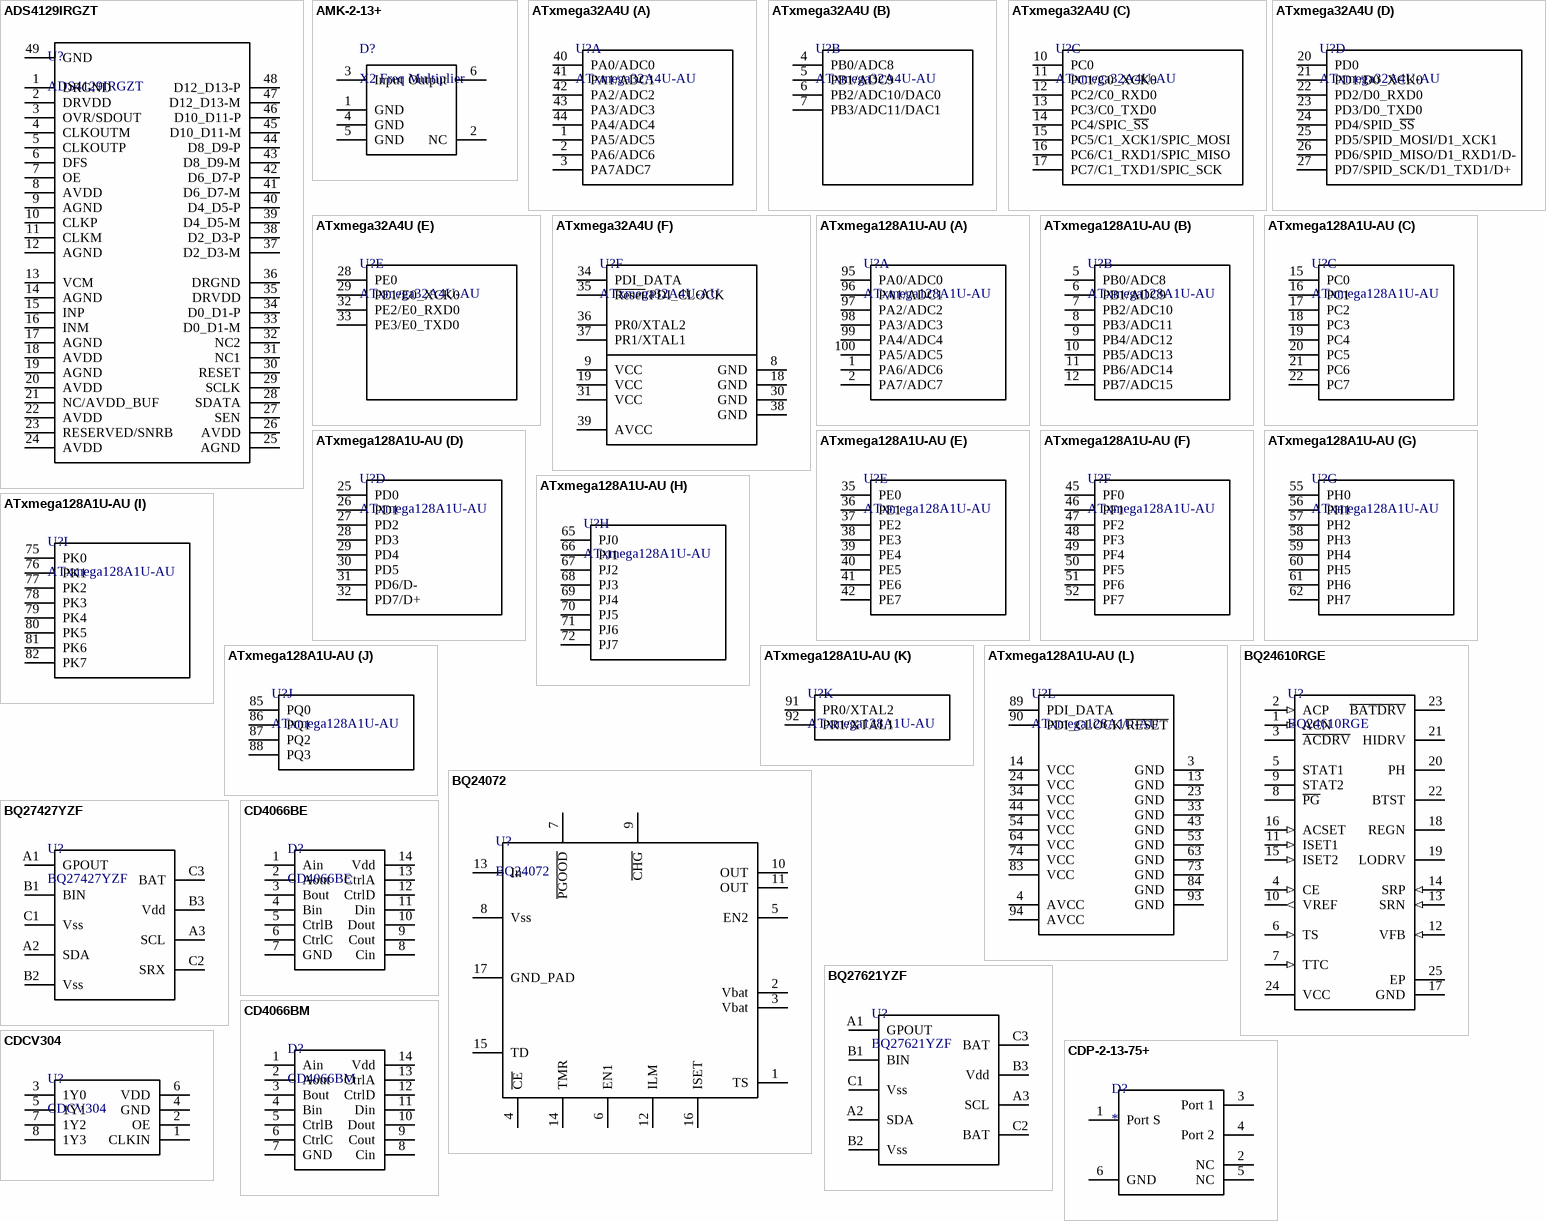
[diagram p2: symbols ADS4129IRGZT to CDP-2-13-75+]

## ADS4129IRGZT
designator U?
12-/14-Bit,160/250MSPS,Ultralow-PowerADC
footprint QFN50P700X700X100-49N
pins: 1 DRGND (power), 2 DRVDD (power), 3 OVR/SDOUT (power), 4 CLKOUTM (power), 5 CLKOUTP (power), 6 DFS (power), 7 OE (power), 8 AVDD (power), 9 AGND (power), 10 CLKP (power), 11 CLKM (power), 12 AGND (power), 13 VCM (power), 14 AGND (power), 15 INP (power), 16 INM (power), 17 AGND (power), 18 AVDD (power), 19 AGND (power), 20 AVDD (power), 21 NC/AVDD_BUF (power), 22 AVDD (power), 23 RESERVED/SNRB (power), 24 AVDD (power), 25 AGND (power), 26 AVDD (power), 27 SEN (power), 28 SDATA (power), 29 SCLK (power), 30 RESET (power), 31 NC1 (power), 32 NC2 (power), 33 D0_D1-M (power), 34 D0_D1-P (power), 35 DRVDD (power), 36 DRGND (power), 37 D2_D3-M (power), 38 D2_D3-P (power), 39 D4_D5-M (power), 40 D4_D5-P (power), 41 D6_D7-M (power), 42 D6_D7-P (power), 43 D8_D9-M (power), 44 D8_D9-P (power), 45 D10_D11-M (power), 46 D10_D11-P (power), 47 D12_D13-M (power), 48 D12_D13-P (power), 49 GND (power)

## AMK-2-13+
designator D?, comment X2 Freq Multiplier
X2 Frequency Multiplier; Manufacturer: Mini-Circuits; Manufacturer p/n: AMK-2-13+; ComponentLink1Description: *; ComponentLink1URL: *; ComponentLink2Description: *; ComponentLink2URL: *; Family: *; Part: AMK-2-13+
footprint AMK-2-13+
pins: 1 GND "No Connect.", 2 NC "No Connect.", 3 Input "Source Terminal. This pin can be an input or output.", 4 GND "No Connect.", 5 GND (power) "Most Positive Power Supply Potential.", 6 Output "Drain Terminal. This pin can be an input or output."

## ATxmega32A4U
designator U?, comment ATxmega32A4U-AU
8/16-bit Atmel XMEGA Microcontroller; Manufacturer: Microchip; ComponentLink1Description: Manufacturer; ComponentLink1URL: www.microchip.com; ComponentLink2Description: Datasheet; ComponentLink2URL: *; family: chip; Manufacturer P/N: ATxmega32A4U-AU; Part: ATxmega32A4U-AU
footprint TQFP-PT44_L (Thin QFP, 44-Leads, Body 10x10mm, Pitch 0.8mm, IPC High Density)
part A pins: 1 PA5/ADC5, 2 PA6/ADC6, 3 PA7ADC7, 40 PA0/ADC0, 41 PA1/ADC1, 42 PA2/ADC2, 43 PA3/ADC3, 44 PA4/ADC4
part B pins: 4 PB0/ADC8, 5 PB1/ADC9, 6 PB2/ADC10/DAC0, 7 PB3/ADC11/DAC1
part C pins: 10 PC0, 11 PC1/C0_XCK0, 12 PC2/C0_RXD0, 13 PC3/C0_TXD0, 14 PC4/SPIC_~{SS}, 15 PC5/C1_XCK1/SPIC_MOSI, 16 PC6/C1_RXD1/SPIC_MISO, 17 PC7/C1_TXD1/SPIC_SCK
part D pins: 20 PD0, 21 PD1/D0_XCK0, 22 PD2/D0_RXD0, 23 PD3/D0_TXD0, 24 PD4/SPID_~{SS}, 25 PD5/SPID_MOSI/D1_XCK1, 26 PD6/SPID_MISO/D1_RXD1/D-, 27 PD7/SPID_SCK/D1_TXD1/D+
part E pins: 28 PE0, 29 PE1/E0_XCK0, 32 PE2/E0_RXD0, 33 PE3/E0_TXD0
part F pins: 8 GND, 9 VCC, 18 GND, 19 VCC, 30 GND, 31 VCC, 34 PDI_DATA, 35 ~{Reset}/PDI_CLOCK, 36 PR0/XTAL2, 37 PR1/XTAL1, 38 GND, 39 AVCC

## ATxmega128A1U-AU
designator U?
8/16-bit Atmel XMEGA Microcontroller; ComponentLink1Description: Manufacturer; ComponentLink1URL: www.microchip.com; ComponentLink2Description: Datasheet; ComponentLink2URL: *; Manufacturer: *; Manufacturer P/N: ATxmega128A1U-AU; Part: ATxmega128A1U-AU; family: Chip
part A pins: 1 PA6/ADC6, 2 PA7/ADC7, 95 PA0/ADC0, 96 PA1/ADC1, 97 PA2/ADC2, 98 PA3/ADC3, 99 PA4/ADC4, 100 PA5/ADC5
part B pins: 5 PB0/ADC8, 6 PB1/ADC9, 7 PB2/ADC10, 8 PB3/ADC11, 9 PB4/ADC12, 10 PB5/ADC13, 11 PB6/ADC14, 12 PB7/ADC15
part C pins: 15 PC0, 16 PC1, 17 PC2, 18 PC3, 19 PC4, 20 PC5, 21 PC6, 22 PC7
part D pins: 25 PD0, 26 PD1, 27 PD2, 28 PD3, 29 PD4, 30 PD5, 31 PD6/D-, 32 PD7/D+
part E pins: 35 PE0, 36 PE1, 37 PE2, 38 PE3, 39 PE4, 40 PE5, 41 PE6, 42 PE7
part F pins: 45 PF0, 46 PF1, 47 PF2, 48 PF3, 49 PF4, 50 PF5, 51 PF6, 52 PF7
part G pins: 55 PH0, 56 PH1, 57 PH2, 58 PH3, 59 PH4, 60 PH5, 61 PH6, 62 PH7
part H pins: 65 PJ0, 66 PJ1, 67 PJ2, 68 PJ3, 69 PJ4, 70 PJ5, 71 PJ6, 72 PJ7
part I pins: 75 PK0, 76 PK1, 77 PK2, 78 PK3, 79 PK4, 80 PK5, 81 PK6, 82 PK7
part J pins: 85 PQ0, 86 PQ1, 87 PQ2, 88 PQ3
part K pins: 91 PR0/XTAL2, 92 PR1/XTAL1
part L pins: 3 GND, 4 AVCC, 13 GND, 14 VCC, 23 GND, 24 VCC, 33 GND, 34 VCC, 43 GND, 44 VCC, 53 GND, 54 VCC, 63 GND, 64 VCC, 73 GND, 74 VCC, 83 VCC, 84 GND, 89 PDI_DATA, 90 PDI_CLOCK/~{RESET}, 93 GND, 94 AVCC

## BQ24072
designator U?
ComponentLink1Description: *; ComponentLink1URL: *; ComponentLink2Description: *; ComponentLink2URL: *; Family: *; Manufacturer: *; Manufacturer P/N: *; Part: *
footprint ZMDI-QFN16_N (QFN, 16-Leads, Body 3.1x3.1mm, Pitch 0.5mm, Thermal Pad 1.65x1.65mm, IPC Medium Density)
pins: 1 TS, 2 Vbat, 3 Vbat, 4 ~{CE}, 5 EN2, 6 EN1, 7 ~{PGOOD}, 8 Vss, 9 ~{CHG}, 10 OUT, 11 OUT, 12 ILM, 13 In, 14 TMR, 15 TD, 16 ISET, 17 GND_PAD

## BQ24610RGE
designator U?
Stand-Alone Synchronous Switch-Mode Li-Ion or Li-Polymer Battery Charger with 5 to 28 V VCC Input, 5 V, -40 to 85 degC, 24-pin VQFN (RGE); Manufacturer: Texas Instruments; ComponentLink1Description: Manufacturer; ComponentLink1URL: http://www.ti.com; ComponentLink2Description: Datasheet; ComponentLink2URL: http://www.ti.com/lit/ds/symlink/bq24610.pdf; Manufacturer P/N: BQ24610RGE; Part: BQ24610RGE; Family: Chip
footprint RGE24-2450X2450TP (QFN, 24-Leads, Body 4x4mm, Pitch 0.5mm, Thermal Pad 2.45x2.45mm, TI Recommended)
pins: 1 ACN (in) "Adapter current-sense resistor, negative input. A 0.1-uF ceramic capacitor is placed from ACN to ACP to provide differential-mode filtering. An optional 0.1-uF ceramic capacitor is placed from the ACN pin to GND for (See Datasheet)", 2 ACP (in) "Adapter current-sense resistor, positive input. A 0.1-uF ceramic capacitor is placed from ACN to ACP to provide differential-mode filtering. A 0.1-uF ceramic capacitor is placed from the ACP pin to GND for common-mode (See Datasheet)", 3 ~{ACDRV} "AC adapter to system MOSFET driver output. Connect through a 1-kohm resistor to the gate of the ACFET P-channel power MOSFET and the reverse conduction blocking P-channel power MOSFET. The internal gate drive is (See Datasheet)", 4 CE (in) "Charge-enable active-HIGH logic input. HI enables charge. LO disables charge. It has an internal 1-Mohm  pulldown resistor.", 5 STAT1 (oc) "Open-drain charge-status pin to indicate various charger operations (See Table 3)", 6 TS (in) "Temperature qualification voltage input for battery-pack negative-temperature-coefficient thermistor. Program the hot and cold temperature window with a resistor divider from VREF to TS to GND. (See Figure 19)", 7 TTC (in) "SafetyTimer and termination control. Connect a capacitor from this node to GND to set the timer. When this input is LOW, the timer and termination are disabled. When this input is HIGH, the timer is disabled but termination (See Datasheet)", 8 ~{PG} (oc) "Open-drain power-good status output. Active-LOW when IC has a valid VCC (not in UVLO or ACOV or SLEEP mode). Active-HIGH when IC has an invalid VCC. P\G\  can be used to drive an LED or communicate with a host processor", 9 STAT2 (oc) "Open-drain charge-status pin to indicate various charger operations (See Table 3)", 10 VREF (out) "3.3-V regulated voltage output. Place a 1-uF ceramic capacitor from VREF to GND pin close to the IC. This voltage could be used for programming of voltage and current regulation and for programming the TS threshold.", 11 ISET1 (in) "Fast-charge current-set input. The voltage on the ISET1 pin programs the fast-charge current-regulation set point.", 12 VFB (in) "Output-voltage analog-feedback adjustment. Connect the output of a resistive voltage divider from the battery terminals to this node to adjust the output battery-regulation voltage.", 13 SRN (in) "Charge-current sense resistor, negative input. A 0.1-uF ceramic capacitor is placed from SRN to SRP to provide differential-mode filtering. An optional 0.1-uF ceramic capacitor is placed from the SRN pin to GND for (See Datasheet)", 14 SRP (in) "Charge-current sense resistor, positive input. A 0.1-uF ceramic capacitor is placed from SRN to SRP to provide differential-mode filtering. A 0.1-uF ceramic capacitor is placed from the SRP pin to GND for common-mode (See Datasheet)", 15 ISET2 (in) "Pre-charge and termination current-set input. The voltage on the ISET2 pin programs the pre-charge current regulation set-point and termination-current trigger point.", 16 ACSET (in) "Adapter-current set input. The voltage on the ACSET pin programs the input-current regulation set-point during dynamic power management (DPM).", 17 GND (power) "Low-current sensitive analog/digital ground. On PCB layout, connect with thermal pad underneath the IC.", 18 REGN (power) "PWM low-side driver positive 6-V supply output. Connect a 1-uF ceramic capacitor from REGN to the GND pin, close to the IC. Use for low-side driver and high-side driver bootstrap voltage by connecting a small-signal Schottky (See Datasheet)", 19 LODRV "PWM low-side driver output. Connect to the gate of the low-side power MOSFET with a short trace.", 20 PH (power) "PWM high-side driver negative supply. Connect to the phase-switching node (junction of the low-side power MOSFET drain, high-side power MOSFET source, and output inductor).", 21 HIDRV "PWM high-side driver output. Connect to the gate of the high-side power MOSFET with a short trace.", 22 BTST (power) "PWM high-side driver positive supply. Connect to the phase-switching node (junction of the low-side power MOSFET drain, high-side power MOSFET source, and output inductor). Connect the 0.1-uF bootstrap capacitor from PH to (See Datasheet)", 23 ~{BATDRV} "Battery-to-system MOSFET driver output. Gate drive for the battery-to-system load BAT PMOS power FET to isolate the system from the battery to prevent current flow from the system to the battery, while allowing a (See Datasheet)", 24 VCC (power) "IC power positive supply. Connect through a 10-ohm to the common-source (diode-OR) point: source of high-side P-channel MOSFET and source of reverse-blocking power P-channel MOSFET. Place a 1-µF ceramic capacitor from VCC to (See Datasheet)", 25 EP (power) "Exposed pad beneath the IC. Always solder the thermal pad to the board, and have vias on the thermal-pad plane star-connecting to GND and to the ground plane for a high-current power converter. It also serves as a thermal (See Datasheet)"

## BQ27427YZF
designator U?
System-Side Impedance Track Fuel Gauge With Integrated Sense Resistor; Manufacturer: Texas Instruments; Manufacturer P/N: BQ27427YZF; Family: Chip; Part: BQ27427YZF; ComponentLink1Description: Manufacturer; ComponentLink1URL: www.ti.com; ComponentLink2Description: Datasheet; ComponentLink2URL: https://www.ti.com/lit/ds/symlink/bq27427.pdf
footprint DSBGA9
pins: A1 GPOUT (oc) "Open-drain charge-status pin to indicate various charger operations (See Table 3)", A2 SDA (oc) "Open-drain charge-status pin to indicate various charger operations (See Table 3)", A3 SCL (oc) "Open-drain charge-status pin to indicate various charger operations (See Table 3)", B1 BIN (oc) "Open-drain charge-status pin to indicate various charger operations (See Table 3)", B2 Vss (oc) "Open-drain charge-status pin to indicate various charger operations (See Table 3)", B3 Vdd (oc) "Open-drain charge-status pin to indicate various charger operations (See Table 3)", C1 Vss (oc) "Open-drain charge-status pin to indicate various charger operations (See Table 3)", C2 SRX (oc) "Open-drain charge-status pin to indicate various charger operations (See Table 3)", C3 BAT (oc) "Open-drain charge-status pin to indicate various charger operations (See Table 3)"

## BQ27621YZF
designator U?
System-Side Impedance Track Fuel Gauge With Integrated Sense Resistor; Manufacturer: Texas Instruments; Manufacturer P/N: BQ27621YZF; Family: Chip; Part: BQ27621YZF; ComponentLink1Description: Manufacturer; ComponentLink1URL: www.ti.com; ComponentLink2Description: Datasheet; ComponentLink2URL: https://www.ti.com/lit/ds/symlink/bq27427.pdf
footprint DSBGA9
pins: A1 GPOUT (oc) "Open-drain charge-status pin to indicate various charger operations (See Table 3)", A2 SDA (oc) "Open-drain charge-status pin to indicate various charger operations (See Table 3)", A3 SCL (oc) "Open-drain charge-status pin to indicate various charger operations (See Table 3)", B1 BIN (oc) "Open-drain charge-status pin to indicate various charger operations (See Table 3)", B2 Vss (oc) "Open-drain charge-status pin to indicate various charger operations (See Table 3)", B3 Vdd (oc) "Open-drain charge-status pin to indicate various charger operations (See Table 3)", C1 Vss (oc) "Open-drain charge-status pin to indicate various charger operations (See Table 3)", C2 BAT (oc) "Open-drain charge-status pin to indicate various charger operations (See Table 3)", C3 BAT (oc) "Open-drain charge-status pin to indicate various charger operations (See Table 3)"

## CD4066BE
designator D?
CMOS QUAD Bilateral Switch; ComponentLink1Description: *; ComponentLink1URL: *; ComponentLink2Description: *; ComponentLink2URL: *; Part: CD4066BE; Family: *; Manufacturer: *; Manufacturer P/N: *
footprint PDIP14
pins: 1 Ain, 2 Aout, 3 Bout, 4 Bin, 5 CtrlB, 6 CtrlC, 7 GND, 8 Cin, 9 Cout, 10 Dout, 11 Din, 12 CtrlD, 13 CtrlA, 14 Vdd

## CD4066BM
designator D?
CMOS QUAD Bilateral Switch; ComponentLink1Description: *; ComponentLink1URL: *; ComponentLink2Description: *; ComponentLink2URL: *; Part: CD4066BM; Family: *; Manufacturer: *; Manufacturer P/N: *
footprint PDSO-G14
pins: 1 Ain, 2 Aout, 3 Bout, 4 Bin, 5 CtrlB, 6 CtrlC, 7 GND, 8 Cin, 9 Cout, 10 Dout, 11 Din, 12 CtrlD, 13 CtrlA, 14 Vdd

## CDCV304
designator U?
200MHz General-purpose Clock Buffer, PCI-X compliant; Manufacturer: Texas Instruments; Manufacturer P/N: CDCV304PW; ComponentLink1Description: Manufacturer; ComponentLink1URL: http://www.ti.com/; ComponentLink2Description: Datasheet; ComponentLink2URL: http://www.ti.com/lit/ds/symlink/cdcv304.pdf; Part: CDCV304; Family: Chip
footprint TSSOP-8_L (SOP, 8-Leads, Body 4.5x3.1mm, Pitch 0.65mm, IPC High Density)
footprint TSSOP-8_M (SOP, 8-Leads, Body 4.5x3.1mm, Pitch 0.65mm, IPC Low Density)
footprint TSSOP-8_N (SOP, 8-Leads, Body 4.5x3.1mm, Pitch 0.65mm, IPC Medium Density)
pins: 1 CLKIN, 2 OE, 3 1Y0, 4 GND, 5 1Y1, 6 VDD, 7 1Y2, 8 1Y3

## CDP-2-13-75+
designator D?
Power Splitter/Combiner; ComponentLink1Description: *; ComponentLink1URL: *; ComponentLink2Description: *; ComponentLink2URL: *; Family: *; Manufacturer: *; Manufacturer P/N: *; Part: *
footprint TT1491-1(minicircuits)
pins: 1 Port S "Source Terminal. This pin can be an input or output.", 2 NC "Source Terminal. This pin can be an input or output.", 3 Port 1 "Source Terminal. This pin can be an input or output.", 4 Port 2 "Source Terminal. This pin can be an input or output.", 5 NC "Source Terminal. This pin can be an input or output.", 6 GND "Source Terminal. This pin can be an input or output."

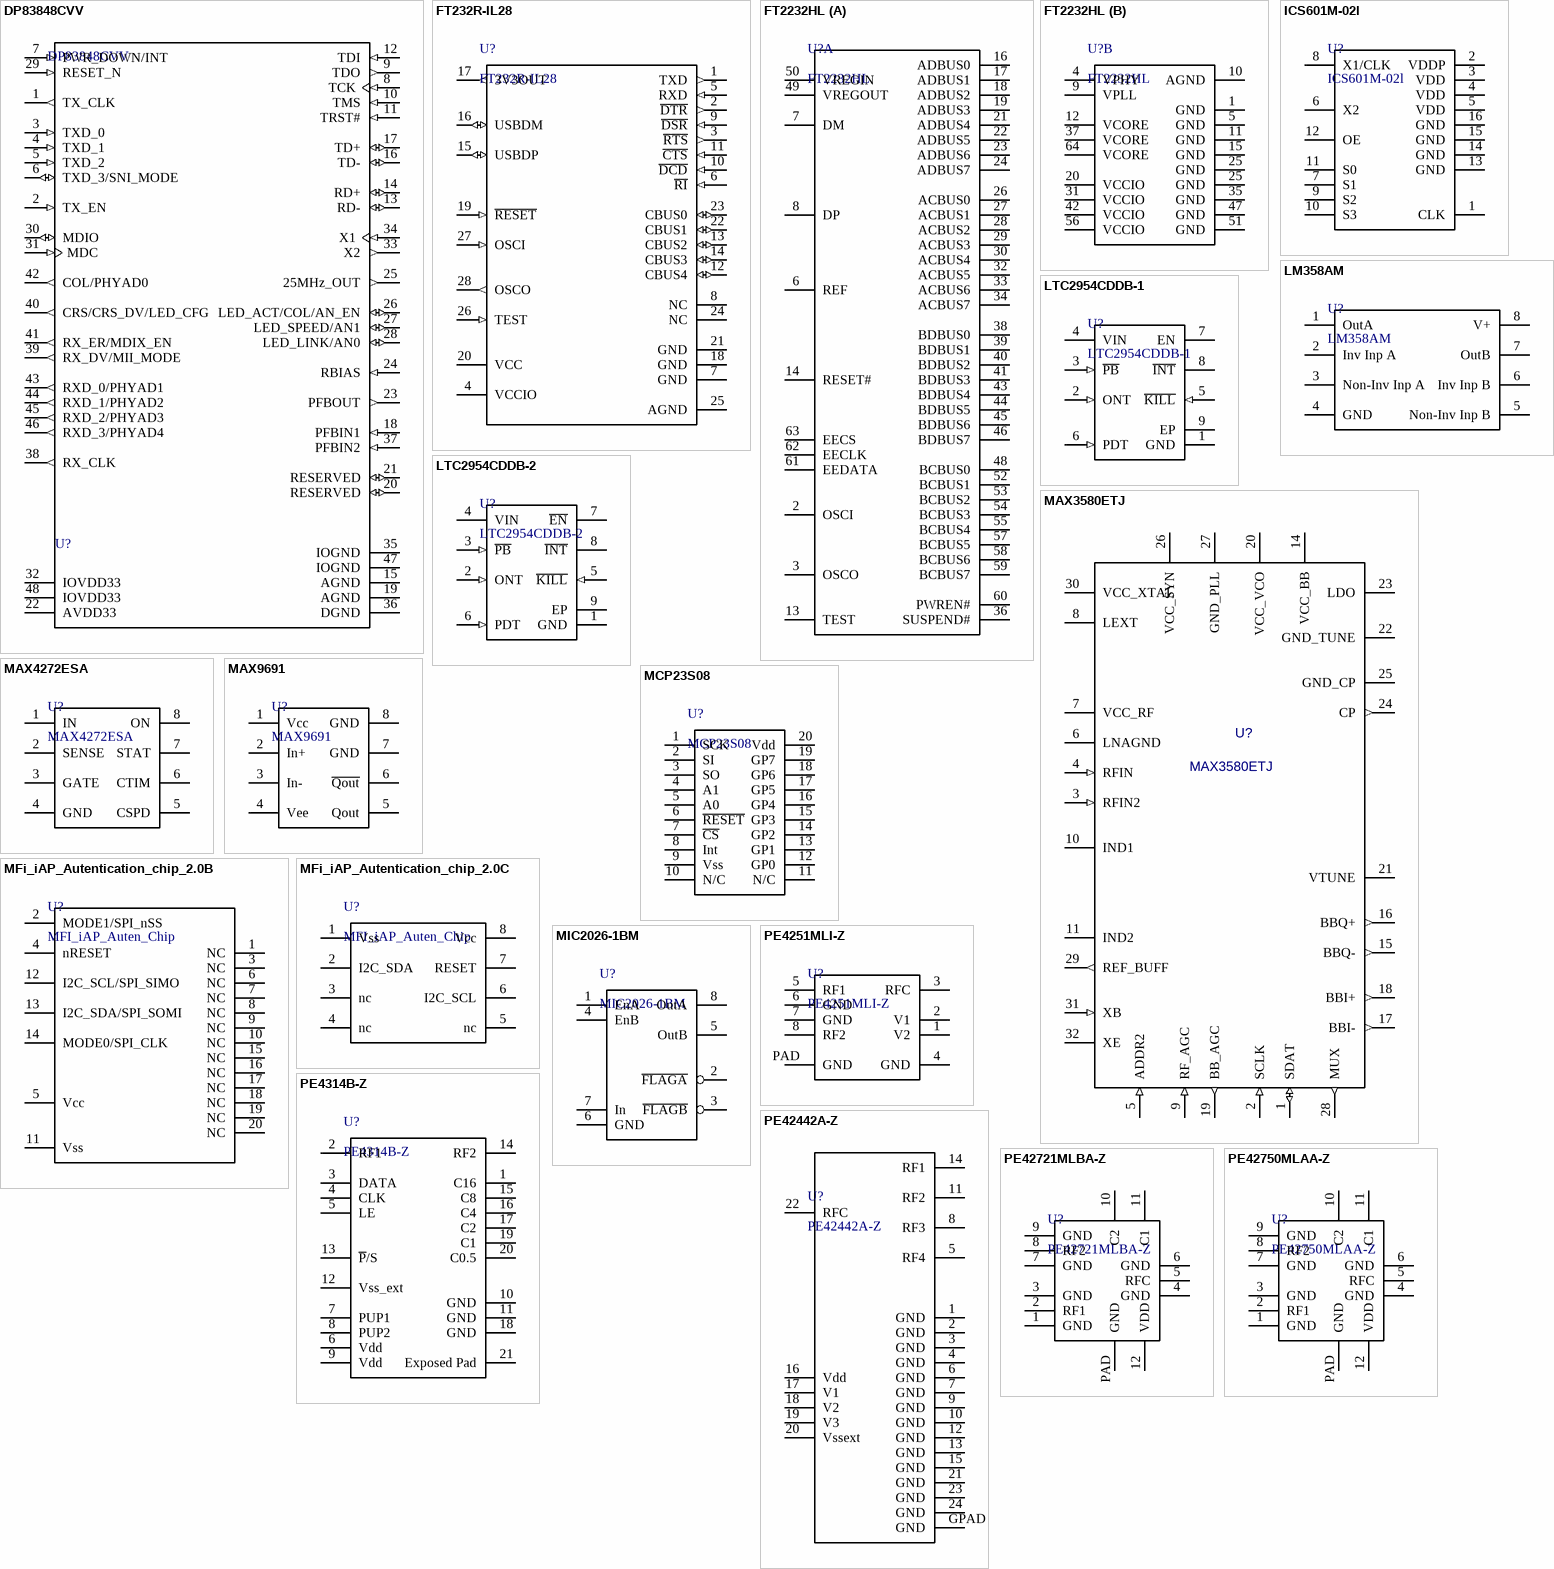
[diagram p3: symbols DP83848CVV to PE42750MLAA-Z]

## DP83848CVV
designator U?
Single Port 10/100 Mb/s Ethernet Physical Layer Transceiver; Manufacturer: Texas Instruments; Manufacturer P/N: DP83848CVV/NOPB; ComponentLink1Description: Manufacturer; ComponentLink1URL: http://www.ti.com/; ComponentLink2Description: Datasheet; ComponentLink2URL: https://www.jameco.com/Jameco/Products/ProdDS/1921661.pdf; Part: DP83848CVV/NOPB; ComponentLink3URL: http://www.ti.com/lit/ds/symlink/dp83848c.pdf; ComponentLink3Description: Datasheet 2; Family: Chip
footprint VBH48A_L (Thin QFP, 48-Leads, Body 7x7mm, Pitch 0.5mm, IPC High Density)
footprint VBH48A_M (Thin QFP, 48-Leads, Body 7x7mm, Pitch 0.5mm, IPC Low Density)
footprint VBH48A_N (Thin QFP, 48-Leads, Body 7x7mm, Pitch 0.5mm, IPC Medium Density)
pins: 1 TX_CLK (out), 2 TX_EN (in), 3 TXD_0 (in), 4 TXD_1 (in), 5 TXD_2 (in), 6 TXD_3/SNI_MODE (io), 7 PWR_DOWN/INT (in), 8 TCK (in), 9 TDO (out), 10 TMS (in), 11 TRST# (in), 12 TDI (in), 13 RD- (io), 14 RD+ (io), 15 AGND (power), 16 TD- (io), 17 TD+ (io), 18 PFBIN1 (in), 19 AGND (power), 20 RESERVED (io), 21 RESERVED (io), 22 AVDD33 (power), 23 PFBOUT (out), 24 RBIAS (in), 25 25MHz_OUT (out), 26 LED_ACT/COL/AN_EN (io), 27 LED_SPEED/AN1 (io), 28 LED_LINK/AN0 (io), 29 RESET_N (in), 30 MDIO (io), 31 MDC (in), 32 IOVDD33 (power), 33 X2 (out), 34 X1 (in), 35 IOGND (power), 36 DGND (power), 37 PFBIN2 (in), 38 RX_CLK (out), 39 RX_DV/MII_MODE (out), 40 CRS/CRS_DV/LED_CFG (out), 41 RX_ER/MDIX_EN (out), 42 COL/PHYAD0 (out), 43 RXD_0/PHYAD1 (out), 44 RXD_1/PHYAD2 (out), 45 RXD_2/PHYAD3 (out), 46 RXD_3/PHYAD4 (out), 47 IOGND (power), 48 IOVDD33 (power)

## FT232R-IL28
designator U?
USB to Serial UART interface; Manufacturer: Future Technology Devices International Ltd.; Manufacturer P/N: FT232RL; ComponentLink1Description: Manufacturer; ComponentLink1URL: http://www.ftdichip.com; ComponentLink2Description: Datasheet; ComponentLink2URL: http://www.ftdichip.com/Support/Documents/DataSheets/ICs/DS_FT232R.pdf; Part: FT232RL; Family: Chip
footprint SSOP-28_L (SOP, 28-Leads, Body 10.2x5.3mm, Pitch 0.65mm, IPC High Density)
footprint SSOP-28_M (SOP, 28-Leads, Body 10.2x5.3mm, Pitch 0.65mm, IPC Low Density)
footprint SSOP-28_N (SOP, 28-Leads, Body 10.2x5.3mm, Pitch 0.65mm, IPC Medium Density)
pins: 1 TXD (out), 2 ~{DTR} (out), 3 ~{RTS} (out), 4 VCCIO (power), 5 RXD (in), 6 ~{RI} (in), 7 GND (power), 8 NC, 9 ~{DSR} (in), 10 ~{DCD} (in), 11 ~{CTS} (in), 12 CBUS4 (io), 13 CBUS2 (io), 14 CBUS3 (io), 15 USBDP (io), 16 USBDM (io), 17 3V3OUT (out), 18 GND (power), 19 ~{RESET} (in), 20 VCC (power), 21 GND (power), 22 CBUS1 (io), 23 CBUS0 (io), 24 NC, 25 AGND (power), 26 TEST (in), 27 OSCI (in), 28 OSCO (out)

## FT2232HL
designator U?
Dual High Speed USB to Multipurpose UART/FIFO IC; Manufacturer: Future Technology Devices International Ltd.; ComponentLink1Description: Manufacturer; ComponentLink1URL: http://www.ftdichip.com; ComponentLink2Description: Datasheet; ComponentLink2URL: http://www.mouser.com/ds/2/163/DS_FT2232H-17353.pdf; Manufacturer p/n: FT2232HL; Family: Chip; Part: FT2232HL
footprint ADI-ST-64-2_N (LQFP, 64-Leads, Body 10x10mm, Pitch 0.5mm, IPC Medium Density)
part A pins: 2 OSCI, 3 OSCO, 6 REF, 7 DM, 8 DP, 13 TEST, 14 RESET#, 16 ADBUS0, 17 ADBUS1, 18 ADBUS2, 19 ADBUS3, 21 ADBUS4, 22 ADBUS5, 23 ADBUS6, 24 ADBUS7, 26 ACBUS0, 27 ACBUS1, 28 ACBUS2, 29 ACBUS3, 30 ACBUS4, 32 ACBUS5, 33 ACBUS6, 34 ACBUS7, 36 SUSPEND#, 38 BDBUS0, 39 BDBUS1, 40 BDBUS2, 41 BDBUS3, 43 BDBUS4, 44 BDBUS5, 45 BDBUS6, 46 BDBUS7, 48 BCBUS0, 49 VREGOUT, 50 VREGIN, 52 BCBUS1, 53 BCBUS2, 54 BCBUS3, 55 BCBUS4, 57 BCBUS5, 58 BCBUS6, 59 BCBUS7, 60 PWREN#, 61 EEDATA, 62 EECLK, 63 EECS
part B pins: 1 GND, 4 VPHY, 5 GND, 9 VPLL, 10 AGND, 11 GND, 12 VCORE, 15 GND, 20 VCCIO, 25 GND, 25 GND, 31 VCCIO, 35 GND, 37 VCORE, 42 VCCIO, 47 GND, 51 GND, 56 VCCIO, 64 VCORE

## ICS601M-02l
designator U?
Low Phase Noise Clock Multiplier; ComponentLink1Description: Manufacturer; ComponentLink1URL: *; ComponentLink2Description: Datasheet; ComponentLink2URL: *; Manufacturer: *; Manufacturer P/N: ICS601M-02l; part: ICS601M-02l; Family: Chip
pins: 1 CLK, 2 VDDP, 3 VDD, 4 VDD, 5 VDD, 6 X2, 7 S1, 8 X1/CLK, 9 S2, 10 S3, 11 S0, 12 OE, 13 GND, 14 GND, 15 GND, 16 GND

## LM358AM
designator U?
Low Power Dual Operational Amplifiers; Manufacturer: National Semiconductor; ComponentLink1Description: *; ComponentLink1URL: *; ComponentLink2Description: *; ComponentLink2URL: *; Family: Chips; Manufacturer p/n: LM358AM; Part: LM358AM
pins: 1 OutA, 2 Inv Inp A, 3 Non-Inv Inp A, 4 GND, 5 Non-Inv Inp B, 6 Inv Inp B, 7 OutB, 8 V+

## LTC2954CDDB-1
designator U?
Push Button On/Off Controller with µP Interrupt; Manufacturer: Linear Technology Corporation; ComponentLink1Description: Manufacturer; ComponentLink1URL: http://www.linear.com/; ComponentLink2Description: Datasheet; ComponentLink2URL: http://www.linear.com/docs/16598; Manufacturer P/N: LTC2954CDDB-1; Part: LTC2954CDDB-1; Family: Chip
footprint LT-DDB-8_V (SON, 8-Leads, Body 3x2mm, Pitch 0.5mm, Thermal Pad 2.2x0.61mm)
pins: 1 GND (power) "Device Ground.", 2 ONT (in) "Turn-On Time Input. Placing an external  capacitor to ground determines the additional time (6.4  seconds/uF) the P\B\ pin must be held low before the enable  output is asserted. Floating this pin results in a default  turn (See Datasheet)", 3 ~{PB} (in) "Pushbutton Input. Connecting P\B\ to  ground through a momentary switch provides on/off  control via the EN/E\N\ and I\N\T\ outputs. An internal 100k  pull-up resistor connects to an internal 1.9V bias voltage.  The rugged (See Datasheet)", 4 VIN (power) "Power Supply Input: 2.7V to 26.4V", 5 ~{KILL} (in) "Kill Input. Forcing K\I\L\L\ low releases the  enable output. During system turn-on, this pin is blanked by  a 512ms internal timer (tK\I\L\L\,ON BLANK) to allow the system  to pull K\I\L\L\ high. This pin has an accurate 0.(See Datasheet)", 6 PDT (in) "Power-Down Time Input. A capacitor  to ground determines the additional time (6.4 seconds/uF)  that the pushbutton must be held low before immediately  releasing the EN/E\N\ and I\N\T\ outputs. Floating this pin  results in (See Datasheet)", 7 EN (oc) "Open Drain Enable Output.  This pin is intended to enable system power. EN is asserted  high after a valid P\B\ turn-on event (tDB,ON + tONT). EN is  released low if: a) K\I\L\L\ is not driven high (by uP) within  512ms of (See Datasheet)", 8 ~{INT} (oc) "Open Drain Interrupt Output. After a  pushbutton turn-off event is detected (tDB,OFF ), the LTC2954  interrupts the system (uP) by asserting the I\N\T\ pin low.  The uP would perform power-down and housekeeping  tasks and (See Datasheet)", 9 EP (power) "Exposed Pad may be left  open or connected to device ground."

## LTC2954CDDB-2
designator U?
Push Button On/Off Controller with µP Interrupt; Manufacturer: Linear Technology Corporation; Manufacturer P/N: LTC2954CDDB-2#TRMPBF; ComponentLink1Description: Manufacturer; ComponentLink1URL: http://www.linear.com/; ComponentLink2Description: Datasheet; ComponentLink2URL: http://www.linear.com/docs/16598; Part: LTC2954CDDB-2; Family: Chip
footprint LT-DDB-8_V (SON, 8-Leads, Body 3x2mm, Pitch 0.5mm, Thermal Pad 2.2x0.61mm)
pins: 1 GND (power) "Device Ground.", 2 ONT (in) "Turn-On Time Input. Placing an external  capacitor to ground determines the additional time (6.4  seconds/uF) the P\B\ pin must be held low before the enable  output is asserted. Floating this pin results in a default  turn (See Datasheet)", 3 ~{PB} (in) "Pushbutton Input. Connecting P\B\ to  ground through a momentary switch provides on/off  control via the EN/E\N\ and I\N\T\ outputs. An internal 100k  pull-up resistor connects to an internal 1.9V bias voltage.  The rugged (See Datasheet)", 4 VIN (power) "Power Supply Input: 2.7V to 26.4V", 5 ~{KILL} (in) "Kill Input. Forcing K\I\L\L\ low releases the  enable output. During system turn-on, this pin is blanked by  a 512ms internal timer (tK\I\L\L\,ON BLANK) to allow the system  to pull K\I\L\L\ high. This pin has an accurate 0.(See Datasheet)", 6 PDT (in) "Power-Down Time Input. A capacitor  to ground determines the additional time (6.4 seconds/uF)  that the pushbutton must be held low before immediately  releasing the EN/E\N\ and I\N\T\ outputs. Floating this pin  results in (See Datasheet)", 7 ~{EN} (oc) "Open Drain Enable Output.  This pin is intended to enable system power. EN is asserted  high after a valid P\B\ turn-on event (tDB,ON + tONT). EN is  released low if: a) K\I\L\L\ is not driven high (by uP) within  512ms of (See Datasheet)", 8 ~{INT} (oc) "Open Drain Interrupt Output. After a  pushbutton turn-off event is detected (tDB,OFF ), the LTC2954  interrupts the system (uP) by asserting the I\N\T\ pin low.  The uP would perform power-down and housekeeping  tasks and (See Datasheet)", 9 EP (power) "Exposed Pad may be left  open or connected to device ground."